# Altium footprint library relay.PcbLib: 1 footprints
Each footprint in its own frame and in the unit in brackets; x right, y up, seen from the top. Pads: shape width x height; smd on the part's side, far side on the other; paste and mask are expansions set on the pad; w line width, h text height; cw(c..) or ccw(c..) is an arc to the next point about the centre after c.
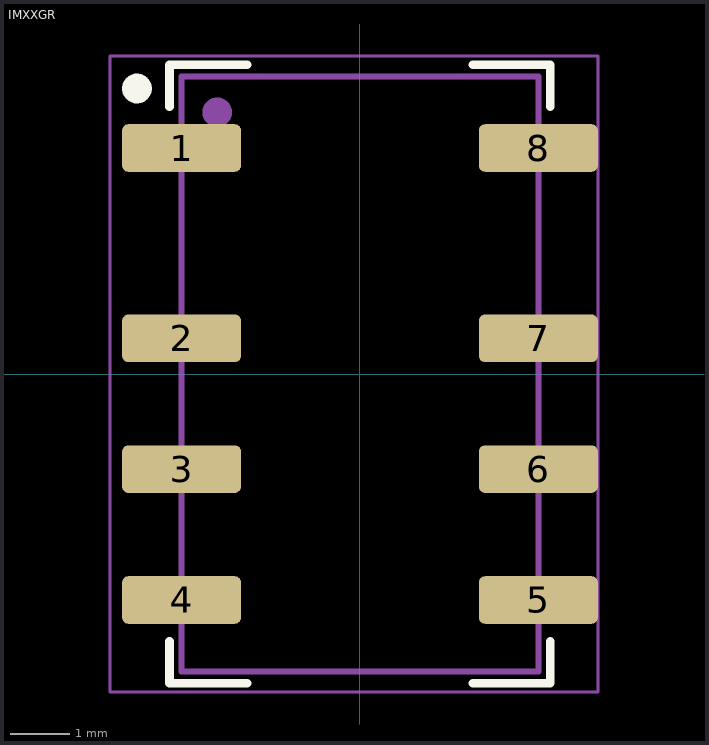
[diagram p0: the footprint, top view; thin cyan lines are the x and y axes]

## IMXXGR [mm]
height 5.7
pads (8):
  rrect25% 2x0.8 smd: 1(-3,3.8) 2(-3,0.6) 3(-3,-1.6) 4(-3,-3.8) 5(3,-3.8) 6(3,-1.6) 7(3,0.6) 8(3,3.8)
Top Overlay:
  circle w0.25: c-3.75,4.8 r0.125
  lines w0.15: -3.2,-4.5 -3.2,-5.2 -1.9,-5.2 ; -3.2,4.5 -3.2,5.2 -1.9,5.2 ; 1.9,-5.2 3.2,-5.2 3.2,-4.5 ; 1.9,5.2 3.2,5.2 3.2,4.5
Top Assembly:
  circle w0.25: c-2.4,4.4 r0.125
  lines w0.1: -3,-5 3,-5 3,5 -3,5 -3,-5
  text ".Designator" at -4.998,-0.333 h1
Top Courtyard (Mech15):
  lines w0.05: -4.2,-5.35 4,-5.35 4,5.35 -4.2,5.35 -4.2,-5.35
3D body "User Library-IMxxGR.step": height 5.65, standoff 0, extent -3.758,-5 3.758,5